# Altium schematic symbol library SmartCar.SchLib: 11 symbols
Pins are listed as number, name and electrical type; pins without a type are passive.

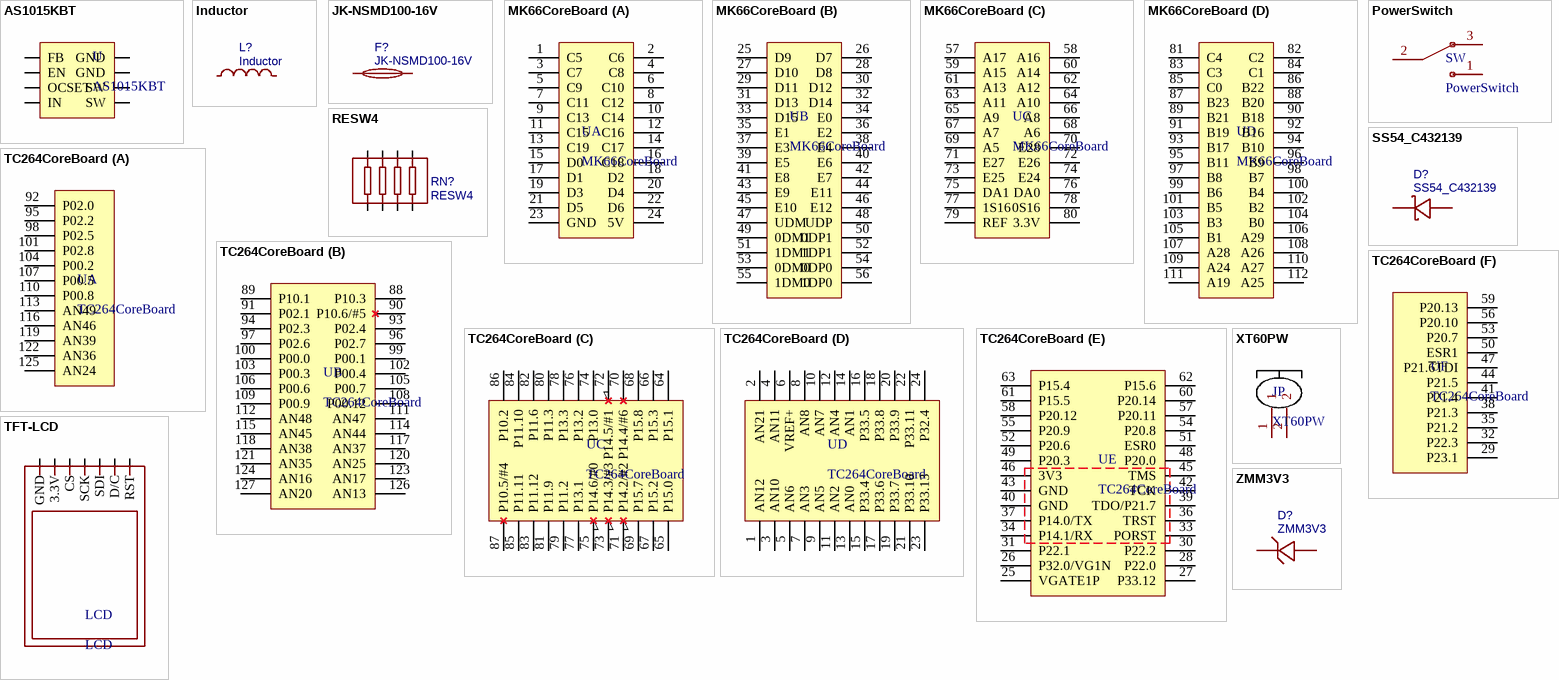
[diagram p0: symbols AS1015KBT to ZMM3V3]

## AS1015KBT
designator U
footprint SOIC-8_150MIL
pins: 1 FB, 2 EN, 3 OCSET, 4 IN, 5 SW, 6 SW, 7 GND, 8 GND

## Inductor
designator L?
BOM_Manufacturer: TDK; BOM_Manufacturer Part: NLV25T-330J-EF; nameAlias: Inductance; Contributor: LCSC; BOM_Supplier: LCSC; BOM_Supplier Part: C295130; spicePre: L; spiceSymbolName: NLV25T-330J-EF
footprint IND-SMD_L8.0-W8.0
pins: 1, 2

## JK-NSMD100-16V
designator F?
BOM_Manufacturer: Jinrui Electronic Materials Co.; Contributor: LCSC; BOM_Supplier: LCSC; BOM_Supplier Part: C369161; BOM_Manufacturer Part: JK-NSMD100-16V; spicePre: F; spiceSymbolName: JK-NSMD100-16V
footprint F1206
footprint FUSE_1210
pins: 1, 2

## MK66CoreBoard
designator U
footprint MK66_MCU
part A pins: 1 C5, 2 C6, 3 C7, 4 C8, 5 C9, 6 C10, 7 C11, 8 C12, 9 C13, 10 C14, 11 C15, 12 C16, 13 C19, 14 C17, 15 D0, 16 C18, 17 D1, 18 D2, 19 D3, 20 D4, 21 D5, 22 D6, 23 GND, 24 5V
part B pins: 25 D9, 26 D7, 27 D10, 28 D8, 29 D11, 30 D12, 31 D13, 32 D14, 33 D15, 34 E0, 35 E1, 36 E2, 37 E3, 38 E4, 39 E5, 40 E6, 41 E8, 42 E7, 43 E9, 44 E11, 45 E10, 46 E12, 47 UDM, 48 UDP, 49 0DM1, 50 0DP1, 51 1DM1, 52 1DP1, 53 0DM0, 54 0DP0, 55 1DM0, 56 1DP0
part C pins: 57 A17, 58 A16, 59 A15, 60 A14, 61 A13, 62 A12, 63 A11, 64 A10, 65 A9, 66 A8, 67 A7, 68 A6, 69 A5, 70 E28, 71 E27, 72 E26, 73 E25, 74 E24, 75 DA1, 76 DA0, 77 1S16, 78 0S16, 79 REF, 80 3.3V
part D pins: 81 C4, 82 C2, 83 C3, 84 C1, 85 C0, 86 B22, 87 B23, 88 B20, 89 B21, 90 B18, 91 B19, 92 B16, 93 B17, 94 B10, 95 B11, 96 B9, 97 B8, 98 B7, 99 B6, 100 B4, 101 B5, 102 B2, 103 B3, 104 B0, 105 B1, 106 A29, 107 A28, 108 A26, 109 A24, 110 A27, 111 A19, 112 A25

## PowerSwitch
designator SW
footprint SW-TH_K3-1260D-K1
pins: 1 ON, 2 C, 3 NC

## RESW4
designator RN?
BOM_Manufacturer: YAGEO; BOM_Manufacturer Part: YC164-JR-0710KL; nameAlias: Resistance (Ohms); BOM_Supplier: LCSC; BOM_Supplier Part: C107374; spicePre: R; spiceSymbolName: YC164-JR-0710KL
footprint RES-ARRAY-SMD_0603-8P-L3.2-W1.6-BL
pins: 1, 2, 3, 4, 5, 6, 7, 8

## SS54_C432139
designator D?
BOM_Manufacturer: LGE; BOM_Manufacturer Part: SS54; Contributor: LCSC; BOM_Supplier: LCSC; BOM_Supplier Part: C432139; spicePre: D; spiceSymbolName: SS54_C432139
footprint SMB_L4.6-W3.6-LS5.3-RD
pins: 1 C, 2 A

## TC264CoreBoard
designator U
footprint LQ-TC264-SYSVC-S (单片机核心板封装库)
part A pins: 92 P02.0, 95 P02.2, 98 P02.5, 101 P02.8, 104 P00.2, 107 P00.5, 110 P00.8, 113 AN49, 116 AN46, 119 AN39, 122 AN36, 125 AN24
part B pins: 88 P10.3, 89 P10.1, 90 P10.6/#5, 91 P02.1, 93 P02.4, 94 P02.3, 96 P02.7, 97 P02.6, 99 P00.1, 100 P00.0, 102 P00.4, 103 P00.3, 105 P00.7, 106 P00.6, 108 P00.12, 109 P00.9, 111 AN47, 112 AN48, 114 AN44, 115 AN45, 117 AN37, 118 AN38, 120 AN25, 121 AN35, 123 AN17, 124 AN16, 126 AN13, 127 AN20
part C pins: 64 P15.1, 65 P15.0, 66 P15.3, 67 P15.2, 68 P15.8, 69 P15.7, 70 P14.4/#6, 71 P14.2/#2, 72 P14.5/#1, 73 P14.3/#3, 74 P13.0, 75 P14.6/#0, 76 P13.2, 77 P13.1, 78 P13.3, 79 P11.2, 80 P11.3, 81 P11.9, 82 P11.6, 83 P11.12, 84 P11.10, 85 P11.11, 86 P10.2, 87 P10.5/#4
part D pins: 1 AN12, 2 AN21, 3 AN10, 4 AN11, 5 AN6, 6 VREF+, 7 AN3, 8 AN8, 9 AN5, 10 AN7, 11 AN2, 12 AN4, 13 AN0, 14 AN1, 15 P33.4, 16 P33.5, 17 P33.6, 18 P33.8, 19 P33.7, 20 P33.9, 21 P33.10, 22 P33.11, 23 P33.13, 24 P32.4
part E pins: 25 VGATE1P, 26 P32.0/VG1N, 27 P33.12, 28 P22.0, 30 P22.2, 31 P22.1, 33 PORST, 34 P14.1/RX, 36 TRST, 37 P14.0/TX, 39 TDO/P21.7, 40 GND, 42 TCK, 43 GND, 45 TMS, 46 3V3, 48 P20.0, 49 P20.3, 51 ESR0, 52 P20.6, 54 P20.8, 55 P20.9, 57 P20.11, 58 P20.12, 60 P20.14, 61 P15.5, 62 P15.6, 63 P15.4
part F pins: 29 P23.1, 32 P22.3, 35 P21.2, 38 P21.3, 41 P21.4, 44 P21.5, 47 P21.~{6}TDI, 50 ESR1, 53 P20.7, 56 P20.10, 59 P20.13

## TFT-LCD
designator LCD, comment LCD
footprint TFT_LCD
pins: 1 GND, 2 3.3V, 3 CS, 4 SCK, 5 SDI, 6 D/C, 7 RST

## XT60PW
designator JP
footprint XT60PW
pins: 1, 2

## ZMM3V3
designator D?
BOM_Manufacturer: SEMTECH; SMT Type: Basic; BOM_Supplier: LCSC; BOM_Manufacturer Part: ZMM3V3; BOM_LCSC Assembly: Yes; image: //image.lceda.cn/szlcsc/C8056.jpg; BOM_Supplier Part: C8056; spicePre: D; spiceSymbolName: ZMM3V3
footprint LL-34_L3.5-W1.5-RD
pins: 1 C, 2 A